# Altium footprint library Skayboard.PcbLib: 6 footprints
Each footprint in its own frame and in the unit in brackets; x right, y up, seen from the top. Pads: shape width x height; smd on the part's side, far side on the other; paste and mask are expansions set on the pad; w line width, h text height; cw(c..) or ccw(c..) is an arc to the next point about the centre after c.
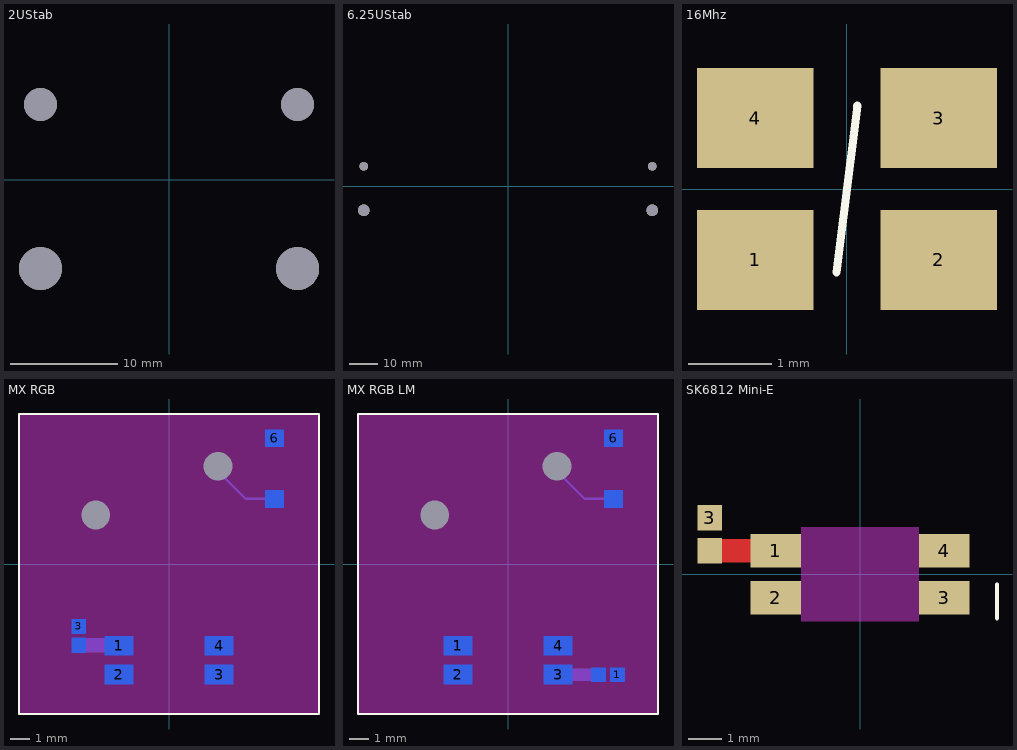
[diagram p0: the footprints below, top view; thin cyan lines are the x and y axes]

## 2UStab [mil]
pads (4):
  round 157 hole 157: ""(-470,-325) ""(470,-325)
  round 120 hole 120: ""(-470,275) ""(470,275)

## 6.25UStab [mil]
pads (4):
  round 157 hole 157: ""(-1968.75,-325) ""(1968.75,-325)
  round 120 hole 120: ""(-1968.75,275) ""(1968.75,275)

## 16Mhz [mm]
height 0.7
pads (4):
  rect 1.4x1.2 smd: 1(-1.1,-0.85) 2(1.1,-0.85) 3(1.1,0.85) 4(-1.1,0.85)
Top Overlay:
  lines w0.1: -0.125,-1 0.125,1

## MX RGB [mm] "Skey's footprint"
pads (10):
  rect 1.5x1 smd far side: 1(-2.6,-4.25) 2(-2.6,-5.75) 3(2.6,-5.75) 4(2.6,-4.25)
  rect 0.72x0.76 smd far side: 3(-4.699,-3.248) ""(-4.699,-4.228)
  round 0 / inner round 2.286 / far side round 2.286 hole 1.499: 5(-3.81,2.54) ""(2.54,5.08)
  rect 0.95x0.9 smd far side: 6(5.488,6.534) ""(5.488,3.384)
Top Layer keep-out:
  rectangle: -7.8,-7.8 7.8,7.8
Bottom Layer:
  lines w0.127: 2.529,4.846 3.991,3.384 5.507,3.384
  lines w0.254: 2.521,4.829 2.521,5.132 ; 2.529,4.846 2.529,5.12
  lines w0.737: -4.659,-4.227 -2.6,-4.227
Top Overlay:
  lines w0.127: -7.8,-7.8 7.8,-7.8 7.8,7.8 -7.8,7.8 -7.8,-7.8
Bottom Overlay:
  region: 6.313,5.086 6.313,5.594 4.726,5.594 4.726,5.086
  lines w0.127: 4,-6.25 4,-5.25
  lines w0.2: 4.713,4.324 4.713,5.594 6.263,5.594 6.263,4.324
Keep-Out Layer:
  board cut-out: -1.75,-3.6 -1.75,-6.4 1.75,-6.4 1.75,-3.6
  board cut-out: 0,1.994 0.196,1.994 0.582,1.917 0.944,1.767 1.271,1.549 1.549,1.271 1.767,0.944 1.917,0.582 1.994,0.196 1.994,0 1.994,-0.196 1.917,-0.582 1.767,-0.944 1.549,-1.271 1.271,-1.549 0.944,-1.767 0.582,-1.917 0.196,-1.994 0,-1.994 -0.196,-1.994 -0.582,-1.917 -0.944,-1.767 -1.271,-1.549 -1.549,-1.271 -1.767,-0.944 -1.917,-0.582 -1.994,-0.196 -1.994,0 -1.994,0.196 -1.917,0.582 -1.767,0.944 -1.549,1.271 -1.271,1.549 -0.944,1.767 -0.582,1.917 -0.196,1.994
  board cut-out: 5.08,0.851 5.164,0.851 5.328,0.818 5.483,0.754 5.622,0.661 5.741,0.542 5.834,0.403 5.898,0.248 5.931,0.084 5.931,0 5.931,-0.084 5.898,-0.248 5.834,-0.403 5.741,-0.542 5.622,-0.661 5.483,-0.754 5.328,-0.818 5.164,-0.851 5.08,-0.851 4.996,-0.851 4.832,-0.818 4.677,-0.754 4.538,-0.661 4.419,-0.542 4.326,-0.403 4.262,-0.248 4.229,-0.084 4.229,0 4.229,0.084 4.262,0.248 4.326,0.403 4.419,0.542 4.538,0.661 4.677,0.754 4.832,0.818 4.996,0.851
  board cut-out: -5.08,0.851 -4.996,0.851 -4.832,0.818 -4.677,0.754 -4.538,0.661 -4.419,0.542 -4.326,0.403 -4.262,0.248 -4.229,0.084 -4.229,0 -4.229,-0.084 -4.262,-0.248 -4.326,-0.403 -4.419,-0.542 -4.538,-0.661 -4.677,-0.754 -4.832,-0.818 -4.996,-0.851 -5.08,-0.851 -5.164,-0.851 -5.328,-0.818 -5.483,-0.754 -5.622,-0.661 -5.741,-0.542 -5.834,-0.403 -5.898,-0.248 -5.931,-0.084 -5.931,0 -5.931,0.084 -5.898,0.248 -5.834,0.403 -5.741,0.542 -5.622,0.661 -5.483,0.754 -5.328,0.818 -5.164,0.851
3D body: height 0.5, standoff 0, extent 5.014,2.933 5.961,6.977
3D body: height 0.5, standoff 0, extent -5.058,-4.607 -4.339,-2.868
3D body "LED v2.step": height 0, standoff -1.1, extent -3.081,-6.4 3.109,-3.6

## MX RGB LM [mm] "Skey's footprint"
pads (10):
  rect 1.5x1 smd far side: 1(-2.6,-4.25) 2(-2.6,-5.75) 3(2.6,-5.75) 4(2.6,-4.25)
  rect 0.76x0.72 smd far side: 1(5.688,-5.75) ""(4.708,-5.75)
  round 0 / inner round 2.286 / far side round 2.286 hole 1.499: 5(-3.81,2.54) ""(2.54,5.08)
  rect 0.95x0.9 smd far side: 6(5.488,6.534) ""(5.488,3.384)
Top Layer keep-out:
  rectangle: -7.8,-7.8 7.8,7.8
Bottom Layer:
  lines w0.127: 2.529,4.846 3.991,3.384 5.507,3.384
  lines w0.254: 2.521,4.829 2.521,5.132 ; 2.529,4.846 2.529,5.12
  lines w0.65: 2.6,-5.75 4.708,-5.75
Top Overlay:
  lines w0.127: -7.8,-7.8 -7.8,7.8 7.8,7.8 7.8,-7.8 -7.8,-7.8
Bottom Overlay:
  region: 6.313,5.086 6.313,5.594 4.726,5.594 4.726,5.086
  lines w0.127: -4.098,-4.722 -4.098,-3.722
  lines w0.2: 4.713,4.324 4.713,5.594 6.263,5.594 6.263,4.324
Keep-Out Layer:
  board cut-out: -5.08,0.851 -4.996,0.851 -4.832,0.818 -4.677,0.754 -4.538,0.661 -4.419,0.542 -4.326,0.403 -4.262,0.248 -4.229,0.084 -4.229,0 -4.229,-0.084 -4.262,-0.248 -4.326,-0.403 -4.419,-0.542 -4.538,-0.661 -4.677,-0.754 -4.832,-0.818 -4.996,-0.851 -5.08,-0.851 -5.164,-0.851 -5.328,-0.818 -5.483,-0.754 -5.622,-0.661 -5.741,-0.542 -5.834,-0.403 -5.898,-0.248 -5.931,-0.084 -5.931,0 -5.931,0.084 -5.898,0.248 -5.834,0.403 -5.741,0.542 -5.622,0.661 -5.483,0.754 -5.328,0.818 -5.164,0.851
  board cut-out: 5.08,0.851 5.164,0.851 5.328,0.818 5.483,0.754 5.622,0.661 5.741,0.542 5.834,0.403 5.898,0.248 5.931,0.084 5.931,0 5.931,-0.084 5.898,-0.248 5.834,-0.403 5.741,-0.542 5.622,-0.661 5.483,-0.754 5.328,-0.818 5.164,-0.851 5.08,-0.851 4.996,-0.851 4.832,-0.818 4.677,-0.754 4.538,-0.661 4.419,-0.542 4.326,-0.403 4.262,-0.248 4.229,-0.084 4.229,0 4.229,0.084 4.262,0.248 4.326,0.403 4.419,0.542 4.538,0.661 4.677,0.754 4.832,0.818 4.996,0.851
  board cut-out: 0,1.994 0.196,1.994 0.582,1.917 0.944,1.767 1.271,1.549 1.549,1.271 1.767,0.944 1.917,0.582 1.994,0.196 1.994,0 1.994,-0.196 1.917,-0.582 1.767,-0.944 1.549,-1.271 1.271,-1.549 0.944,-1.767 0.582,-1.917 0.196,-1.994 0,-1.994 -0.196,-1.994 -0.582,-1.917 -0.944,-1.767 -1.271,-1.549 -1.549,-1.271 -1.767,-0.944 -1.917,-0.582 -1.994,-0.196 -1.994,0 -1.994,0.196 -1.917,0.582 -1.767,0.944 -1.549,1.271 -1.271,1.549 -0.944,1.767 -0.582,1.917 -0.196,1.994
  board cut-out: -1.75,-3.6 -1.75,-6.4 1.75,-6.4 1.75,-3.6
3D body: height 0.5, standoff 0, extent 5.014,2.933 5.961,6.977
3D body: height 0.5, standoff 0, extent 4.327,-6.11 6.066,-5.391
3D body "LED v2.step": height 0, standoff -1.1, extent -3.081,-6.4 3.109,-3.6

## SK6812 Mini-E [mm]
pads (6):
  rect 1.5x1 smd: 1(-2.5,0.7) 2(-2.5,-0.7) 3(2.5,-0.7) 4(2.5,0.7)
  rect 0.72x0.76 smd: 3(-4.458,1.68) ""(-4.458,0.7)
Top Layer:
  lines w0.7: -4.458,0.7 -2.5,0.7
Top Layer keep-out:
  rectangle: -1.75,-1.4 1.75,1.4
Top Overlay:
  lines w0.127: 4.063,-1.303 4.063,-0.303
3D body: height 1, standoff 0, extent -3.599,1.243 -3.599,1.243
3D body "LED v2.step": height 1.1, standoff 0, extent -3.1,-1.4 3.09,1.4
3D body: height 1, standoff 0, extent -4.818,0.321 -4.098,2.06